# EAGLE library part MFRC52202HN1 (library RFiD)
Connect-List generated from MFRC522.DEV Variant '' with split-device-symbol.ulp
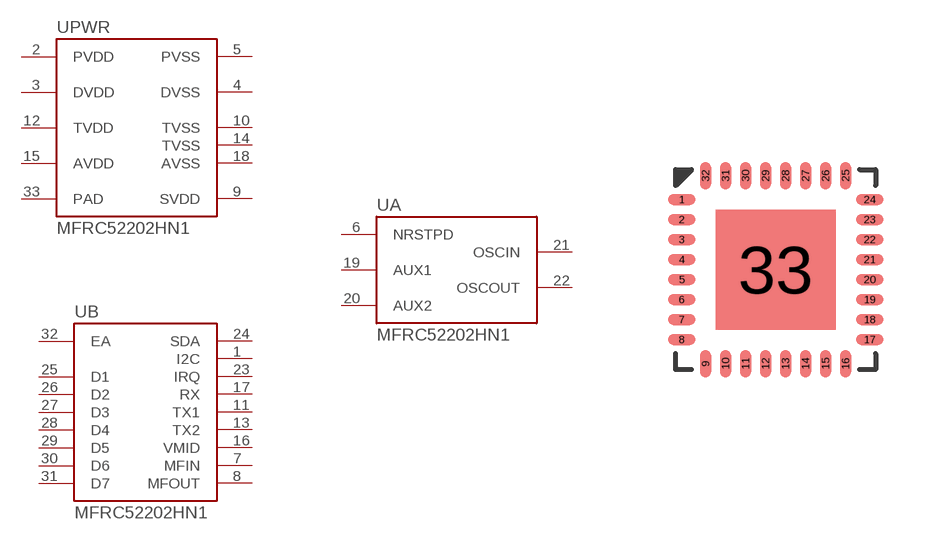
[diagram p3: symbol with the pads of QFN32; footprint QFN32]

Designator prefix U; gates PWR=MFRC522-A B=MFRC522-B A=MFRC522-C

## MFRC52202HN1  [QFN32]
1  B:I2C
2  PWR:PVDD
3  PWR:DVDD
4  PWR:DVSS
5  PWR:PVSS
6  A:NRSTPD
7  B:MFIN
8  B:MFOUT
9  PWR:SVDD
10  PWR:TVSS
11  B:TX1
12  PWR:TVDD
13  B:TX2
14  PWR:TVSS
15  PWR:AVDD
16  B:VMID
17  B:RX
18  PWR:AVSS
19  A:AUX1
20  A:AUX2
21  A:OSCIN
22  A:OSCOUT
23  B:IRQ
24  B:SDA
25  B:D1
26  B:D2
27  B:D3
28  B:D4
29  B:D5
30  B:D6
31  B:D7
32  B:EA
33  PWR:PAD

## Footprint QFN32 (pad centres in mm)
smd 0.69 x 0.28: 1 -2.35,1.75; 2 -2.35,1.25; 3 -2.35,0.75; 4 -2.35,0.25; 5 -2.35,-0.25; 6 -2.35,-0.75; 7 -2.35,-1.25; 8 -2.35,-1.75; 17 2.35,-1.75; 18 2.35,-1.25; 19 2.35,-0.75; 20 2.35,-0.25; 21 2.35,0.25; 22 2.35,0.75; 23 2.35,1.25; 24 2.35,1.75
smd 0.28 x 0.69: 9 -1.75,-2.35; 10 -1.25,-2.35; 11 -0.75,-2.35; 12 -0.25,-2.35; 13 0.25,-2.35; 14 0.75,-2.35; 15 1.25,-2.35; 16 1.75,-2.35; 25 1.75,2.35; 26 1.25,2.35; 27 0.75,2.35; 28 0.25,2.35; 29 -0.25,2.35; 30 -0.75,2.35; 31 -1.25,2.35; 32 -1.75,2.35
smd 3 x 3: 33 0,0